# EAGLE library part NE5212 (library opamps)
NE5212: High speed transimpedance opamp (Philips) ±5V, ±3mA, 1V input bias voltage 120mV output offset, 100MHz UGF, 2.5pA/rt(Hz) noise
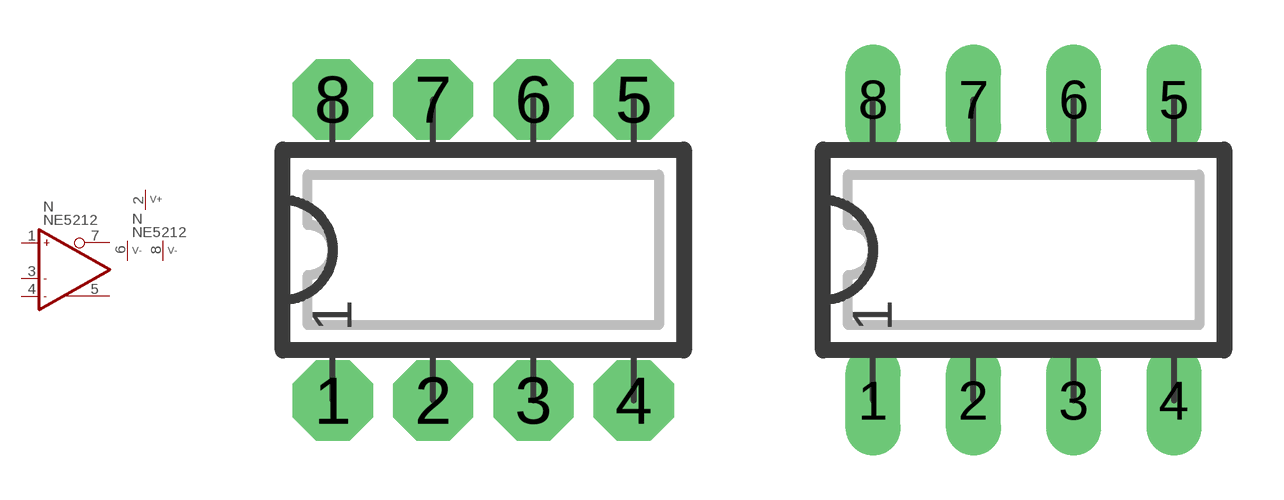
[diagram p195: symbol with the pads of DIP08N; footprints DIP08N, DIP08L]

Designator prefix N; gates A=NE5212 P=V+2-

## NE5212N  [DIP08N]
1  A:IN  in
2  P:V+  pwr
3  A:GND1  pwr
4  A:GND1  pwr
5  A:OPO+  out
6  P:V-1  pwr
7  A:OPO-  out
8  P:V-2  pwr

## NE5212  [DIP08L]
Pads as for DIP08N

## NE5212L  [DIP08L]
Pads as for DIP08N

## NE5212R  [DIP08R]
Pads as for DIP08N

## NE5212S  [SO08]
Pads as for DIP08N

## Footprint DIP08N (pad centres in mm)
DIP-8 Standard IC package, 8 pins
drill 0.813 pad 2.032 octagon: 1 -3.81,-3.81; 2 -1.27,-3.81; 3 1.27,-3.81; 4 3.81,-3.81; 5 3.81,3.81; 6 1.27,3.81; 7 -1.27,3.81; 8 -3.81,3.81

## Footprint DIP08L (pad centres in mm)
DIP-8, long pads Standard IC package, 8 pins
drill 0.813 pad 1.397 long: 1 -3.81,-3.81; 2 -1.27,-3.81; 3 1.27,-3.81; 4 3.81,-3.81; 5 3.81,3.81; 6 1.27,3.81; 7 -1.27,3.81; 8 -3.81,3.81

## Footprint DIP08R (pad centres in mm)
DIP-8, reduced pads Standard IC package, 8 pins
drill 0.813 pad 1.397 square: 1 -3.81,-3.81; 2 -1.27,-3.81; 3 1.27,-3.81; 4 3.81,-3.81; 5 3.81,3.81; 6 1.27,3.81; 7 -1.27,3.81; 8 -3.81,3.81

## Footprint SO08 (pad centres in mm)
SO-8, SMD SOIC IC package, 8 pins
smd 0.635 x 1.778: 1 -1.905,-2.857; 2 -0.635,-2.857; 3 0.635,-2.857; 4 1.905,-2.857; 5 1.905,2.857; 6 0.635,2.857; 7 -0.635,2.857; 8 -1.905,2.857